# Altium schematic symbol library LTC4365.SchLib: 1 symbol
Pins are listed as number, name and electrical type; pins without a type are passive.

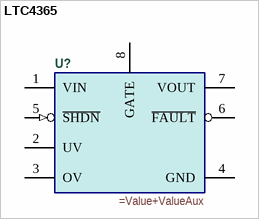
[diagram p0: symbol LTC4365]

## LTC4365
designator U?
=Description
pins: 1 VIN (power), 2 UV (power), 3 OV (power), 4 GND (power), 5 ~{SHDN} (in), 6 ~{FAULT} (oc), 7 VOUT (power), 8 GATE